# Altium schematic symbol library SQ2318AES-T1_BE3.SchLib: 1 symbol
Pins are listed as number, name and electrical type; pins without a type are passive.

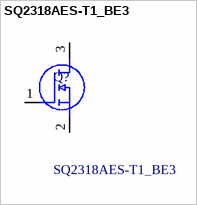
[diagram p0: symbol SQ2318AES-T1_BE3]

## SQ2318AES-T1_BE3
designator Q?
MOSFET N-CHANNEL 40V (D-S); Manufacturer_Name: Vishay; Geometry.Height: 1.12mm; Mouser Part Number: 78-SQ2318AES-T1_BE3; Mouser Price/Stock: https://www.mouser.co.uk/ProductDetail/Vishay-Siliconix/SQ2318AES-T1_BE3?qs=TiOZkKH1s2QuMGPo0iDprw%3D%3D; Manufacturer_Part_Number: SQ2318AES-T1_BE3; Datasheet Link: https://www.mouser.co.uk/datasheet/2/427/sq2318aes-1764491.pdf
footprint SOT95P237X112-3N
pins: 1 G, 2 S, 3 D